# Altium schematic symbol library RES,100k,5%,0.1W,0402.Schlib: 1 symbol
Pins are listed as number, name and electrical type; pins without a type are passive.

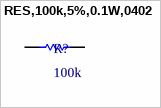
[diagram p0: symbol RES,100k,5%,0.1W,0402]

## RES,100k,5%,0.1W,0402
designator R?, comment 100k
100 kOhms ±5% 0.1W, 1/10W Chip Resistor 0402 (1005 Metric) Automotive AEC-Q200 Thick Film
pins: 1, 2